# Altium footprint library m.PcbLib: 55 footprints (part 2 of 4)
Each footprint in its own frame and in the unit in brackets; x right, y up, seen from the top. Pads: shape width x height; smd on the part's side, far side on the other; paste and mask are expansions set on the pad; w line width, h text height; cw(c..) or ccw(c..) is an arc to the next point about the centre after c.
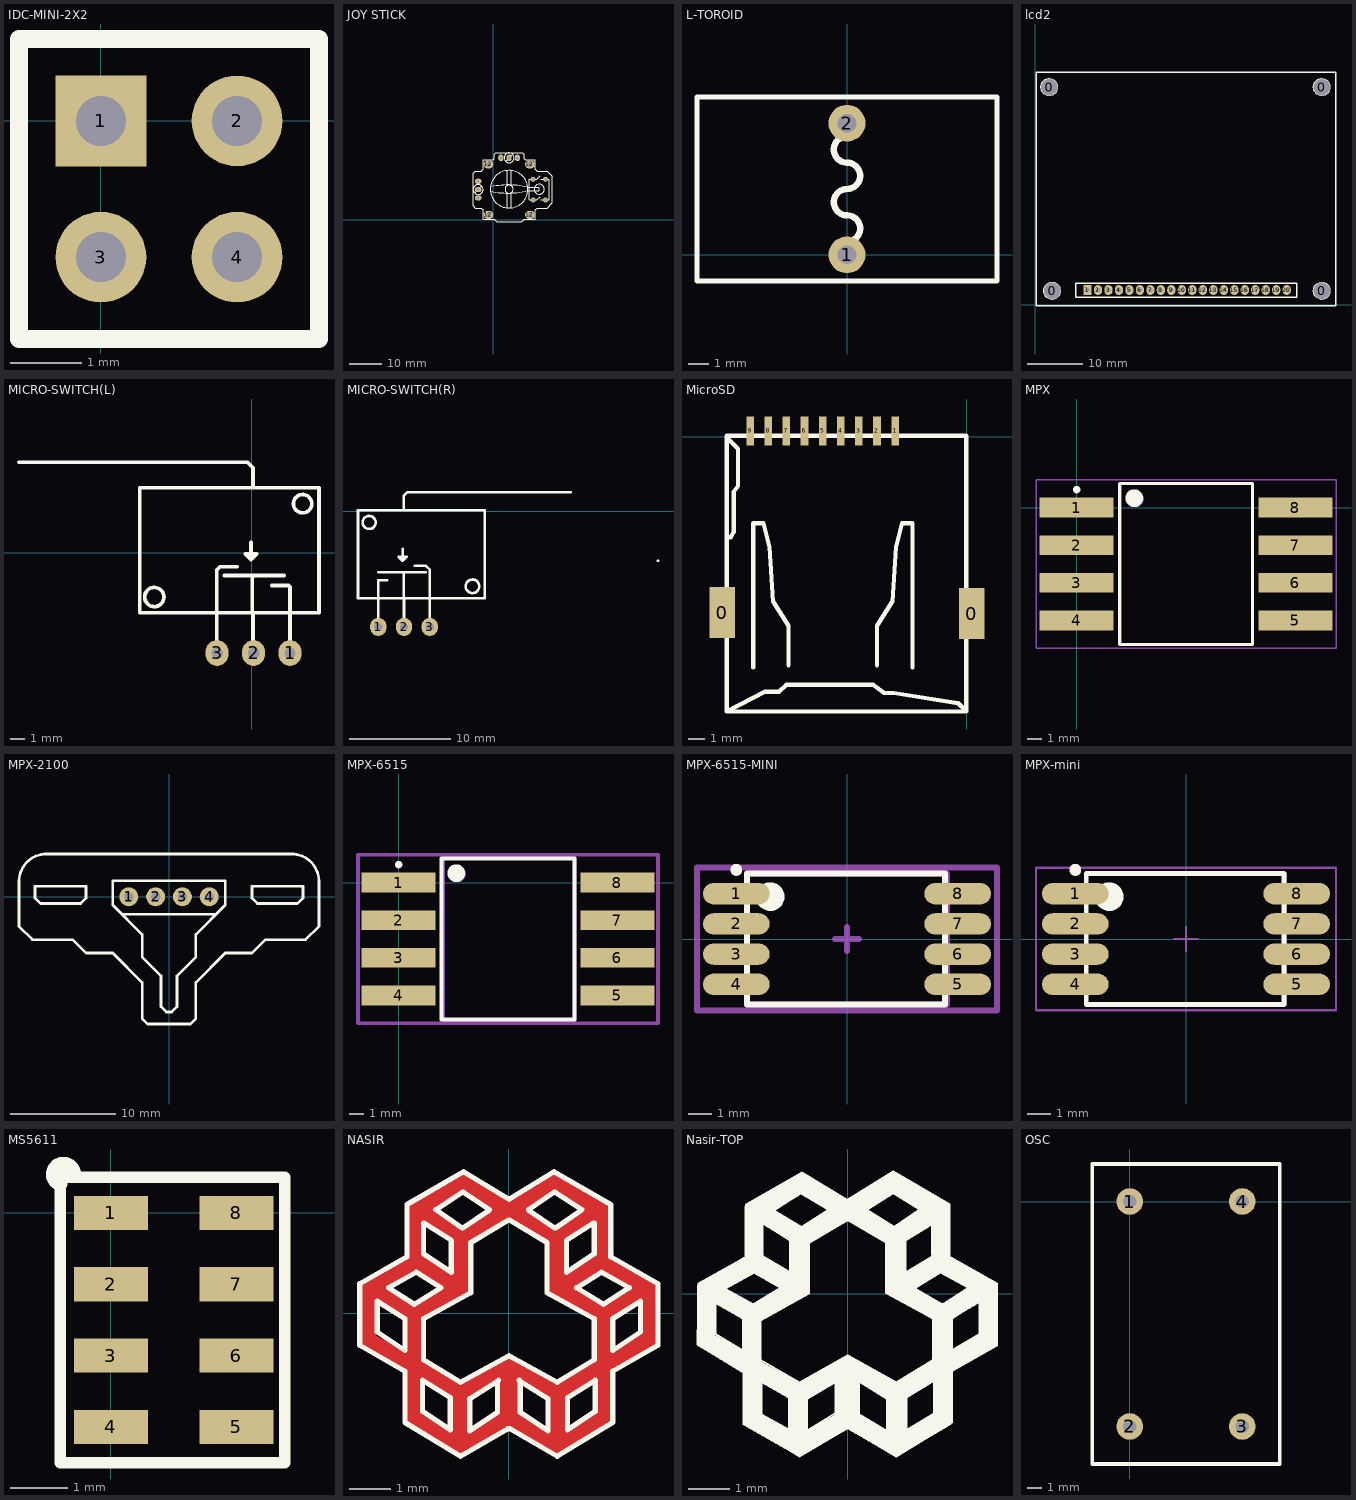
[diagram p1: the footprints below, top view; thin cyan lines are the x and y axes]

## IDC-MINI-2X2 [mm]
pads (4):
  rect 1.27x1.27 hole 0.7: 1(0,0)
  round 1.27 hole 0.7: 2(1.905,0) 3(0,-1.905) 4(1.905,-1.905)
Top Overlay:
  lines w0.254: -1.143,-3.048 -1.143,1.143 3.048,1.143 3.048,-3.048 -1.143,-3.048

## JOY STICK [mm]
pads (14):
  oval 2x1.6 hole 0.9: 1(-4.69,6.703) 2(-4.69,9.243) 3(-4.69,11.783)
  oval 1.6x2 hole 0.9: 4(2.259,18.986) 5(4.799,18.986) 6(7.339,18.986)
  round 1.524 hole 0.762: 7(15.968,6.06) 7(15.968,12.41) 8(12.158,6.06) 8(12.158,12.41)
  oval 3x2.5 hole 1.5: 12(-1.563,1.486) 12(-1.563,16.986) 12(11.158,1.486) 12(11.158,16.986)
Top Overlay:
  circle w0.254: c14.053,9.366 r1.529
  circle w0.254: c4.787,9.366 r5.75
  lines w0.254: -6.262,9.186 -6.262,14.247 -5.623,14.886 -3.801,14.886 -3.201,15.486 -3.201,18.386 -0.101,18.386 0.199,18.686 0.199,19.986 0.755,20.542 4.993,20.542 8.881,20.542 9.437,19.986 9.437,18.686 9.737,18.386 12.837,18.386 12.837,15.486 13.437,14.886 16.537,14.886 18.085,13.338 18.085,9.834 18.085,5.148 16.537,3.6 13.437,3.6 12.837,3 12.837,0.1 ; -6.262,9.3 -6.262,4.239 -5.623,3.6 -3.801,3.6 -3.201,3 -3.201,0.1 0.266,0.1 1.033,-0.667 8.604,-0.667 9.37,0.1 ; -5.754,8.223 -3.722,10.255 -3.595,10.255 ; -4.69,11.783 -4.361,11.783 ; -3.183,9.381 ccw(c-4.69,9.243) -3.177,9.239 ; -0.924,8.786 ccw(c4.389,31.799) 10.502,8.985 ; -0.797,10.074 cw(c4.516,-12.939) 10.43,9.927 13.859,9.927 cw(c13.297,9.42) 13.804,8.858 10.629,8.858 ; 3.735,17.966 5.767,19.998 ; 4.152,3.778 4.152,8.096 ; 4.152,10.636 4.152,14.954 ; 5.422,3.778 5.422,8.096 ; 5.422,10.636 5.422,14.954 ; 6.018,9.59 ccw(c4.787,9.366) 6.025,9.543 ; 6.306,19.124 ccw(c4.799,18.986) 6.313,18.982 ; 14.312,7.08 13.292,6.06 10.973,6.06 10.973,12.41 13.292,12.41 14.312,13.43 ; 14.439,12.414 14.443,12.41 17.069,12.41 17.069,6.06 14.443,6.06 ; 9.37,0.1 12.837,0.1 ; 9.37,0.1 12.837,0.1 ; 9.37,0.1 12.837,0.1

## L-TOROID [mil]
pads (2):
  round 70 hole 35.43: 1(0,0) 2(0,250)
Top Overlay:
  lines w10: -285,-50 285,-50 285,300 -285,300 -285,-50
  lines w12: 0,0 0,25 ccw(c0,50) 0,75 cw(c0,100) 0,125 ccw(c0,150) 0,175 cw(c0,200) 0,225
3D body: height 569.44, standoff 0.56, extent -280,-15 287.75,277

## lcd2 [mm]
pads (24):
  round 3 hole 3: 0(2.515,39.497) 0(3.023,2.489) 0(52.019,2.489) 0(52.019,39.472)
  rect 1.5x1.8 hole 0.7: 1(9.449,2.642)
  oval 1.5x1.8 hole 0.7: 2(11.354,2.642) 3(13.259,2.642) 4(15.164,2.642) 5(17.069,2.642) 6(18.974,2.642) 7(20.879,2.642) 8(22.784,2.642) 9(24.689,2.642) 10(26.594,2.642) 11(28.499,2.642) 12(30.404,2.642) 13(32.309,2.642) 14(34.214,2.642) 15(36.119,2.642) 16(38.024,2.642) 17(39.929,2.642) 18(41.834,2.642) 19(43.739,2.642) 20(45.644,2.642)
Top Overlay:
  circle w0.254: c52,39.5 r1.5
  circle w0.254: c3,2.5 r1.5
  circle w0.254: c52,2.5 r1.5
  circle w0.254: c2.5,39.5 r1.5
  lines w0.254: 0.1,-0.25 54.6,-0.25 54.6,42.24 0.1,42.24 0.1,-0.25 ; 7.3,1.35 47.5,1.35 47.5,3.85 7.3,3.85 7.3,1.35

## MICRO-SWITCH(L) [mm]
pads (3):
  oval 1.6x1.8 hole 0.8: 1(2.68,-7) 2(0.14,-7) 3(-2.4,-7)
Top Layer:
  lines w0.254: -7.8,4.5 -7.8,4.5
Top Overlay:
  circle w0.254: c-6.771,-3.1 r0.671
  circle w0.254: c3.56,3.4 r0.64
  lines w0.254: -16.2,6.3 -0.3,6.3 0.1,5.9 0.1,5.6 0.1,4.5 ; -2.42,-7.1 -2.42,-4.32 -2.42,-1.46 -2.42,-1.22 -2.2,-1 -1,-1 ; -1.9,-1.6 0.16,-1.6 ; -0.04,0.7 -0.04,-0.5 ; 0.06,-4.2 0.06,-3.4 0.06,-1.7 0.16,-1.6 ; 0.1,-7 0.1,-4.36 ; 1.4,-2.3 2.6,-2.3 2.68,-2.38 2.68,-7 ; 2.26,-1.6 0.16,-1.6 ; -0.04,-0.5 -0.44,-0.1 0.36,-0.1 -0.04,-0.5 ; -7.8,-4.2 -7.8,4.5 4.7,4.5 4.7,-4.2 -7.8,-4.2

## MICRO-SWITCH(R) [mm]
pads (3):
  oval 1.6x1.8 hole 0.8: 1(-53.1,-11.4) 2(-50.56,-11.4) 3(-48.02,-11.4)
Top Layer:
  lines w0.254: -55.1,0.1 -55.1,0.1
Top Overlay:
  circle w0.254: c-43.8,-7.4 r0.671
  circle w0.254: c-54,-1.1 r0.64
  lines w0.254: -53.1,-11.4 -53.1,-8.6 -53.1,-8.2 -53.1,-6.8 -52.2,-6.8 ; -53.1,-6 -50.5,-6 ; -50.7,-3.7 -50.7,-4.9 ; -50.6,-8.6 -50.6,-7.8 -50.6,-6.1 -50.5,-6 ; -50.6,0.1 -50.6,1.5 -50.2,1.9 -34.1,1.9 ; -50.56,-11.4 -50.56,-8.76 ; -49.5,-5.38 -48.4,-5.38 -48.02,-5.76 -48.02,-8.62 -48.02,-11.4 ; -48.4,-6 -50.5,-6 ; -50.7,-4.9 -50.7,-4.9 ; -50.7,-4.9 -51.1,-4.5 -50.3,-4.5 -50.7,-4.9 ; -55.1,-8.6 -55.1,0.1 -42.6,0.1 -42.6,-8.6 -55.1,-8.6 ; -25.5,-4.9 -25.5,-4.9

## MicroSD [mm]
pads (11):
  rect 1.5x3 smd: 0(-14.376,-10.363) 0(0.279,-10.414)
  rect 0.45x1.7 smd: 1(-4.216,0.33) 2(-5.283,0.33) 3(-6.35,0.33) 4(-7.416,0.33) 5(-8.483,0.33) 6(-9.55,0.33) 7(-10.616,0.33) 8(-11.683,0.33) 9(-12.75,0.33)
Top Overlay:
  lines w0.254: -14.12,-5.918 -13.891,-5.918 -13.714,-5.613 -13.714,-3.251 -13.46,-2.896 -13.46,-0.711 -14.12,-0.051 ; -12.571,-13.589 -12.571,-5.105 -12.266,-5.105 -11.961,-5.105 -11.605,-6.502 -11.402,-9.703 -10.488,-11.125 -10.488,-13.462 ; -5.281,-13.462 -5.281,-11.125 -4.366,-9.703 -4.163,-6.502 -3.808,-5.105 -3.503,-5.105 -3.198,-5.105 -3.198,-13.589 ; -14.12,-16.18 -11.859,-15.011 -11.047,-15.011 -10.615,-14.605 -5.509,-14.605 -4.877,-15.088 -4.318,-15.088 -4.293,-15.088 -0.506,-15.697 -0.023,-16.18 ; -14.12,-16.18 -0.023,-16.18 ; -14.12,-16.18 -14.12,0.051 -0.023,0.051 -0.023,-16.18
3D body: height 0.3, standoff 0, extent -14.12,-16.18 -0.023,0.051

## MPX [mm] "SOP, 8-Leads, Body 10.9x10.9mm (max), Pitch 2.54mm, IPC Medium Density"
height 2.65
pads (8):
  rect 5x1.35 smd: 1(0,0) 2(0,-2.54) 3(0,-5.08) 4(0,-7.62) 5(14.8,-7.62) 6(14.8,-5.08) 7(14.8,-2.54) 8(14.8,0)
Top Overlay:
  circle w0.6: c3.9,0.64 r0.3
  circle w0.25: c0,1.225 r0.125
  lines w0.2: 2.9,-9.26 11.9,-9.26 11.9,1.64 2.9,1.64 2.9,-9.26
Mechanical 13:
  circle w0.1: c4.004,0.61 r0.5
  lines w0.1: 3.006,-9.27 11.896,-9.27 11.896,1.65 3.006,1.65 3.006,-9.27
Mechanical 15:
  lines w0.1: -2.75,-9.51 17.55,-9.51 17.55,1.89 -2.75,1.89 -2.75,-9.51
3D body: height 4.06, standoff 2.56, extent 4.445,-6.756 10.82,-0.369
3D body: height 5, standoff 0, extent 5.11,-6.045 10.084,-1.067
3D body: height 2.65, standoff 0.1, extent 2.879,-9.271 11.87,1.651

## MPX-2100 [mm]
pads (4):
  round 1.8 hole 0.9: 1(-3.81,0) 2(-1.27,0) 3(1.27,0) 4(3.81,0)
Top Overlay:
  lines w0.254: -11.684,4.064 11.557,4.064 cw(c11.62,1.46) 14.224,1.524 14.224,-2.794 ; -11.557,4.064 ccw(c-11.62,1.46) -14.224,1.524 -14.224,-2.794 -12.954,-4.064 -9.144,-4.064 -7.874,-5.334 -5.334,-5.334 -2.54,-8.128 -2.54,-11.557 -2.032,-12.065 0,-12.065 2.032,-12.065 2.54,-11.557 2.54,-8.128 5.334,-5.334 7.874,-5.334 9.144,-4.064 12.954,-4.064 ; -7.874,1.016 -7.874,-0.127 -8.382,-0.635 -12.192,-0.635 -12.7,-0.127 -12.7,1.016 ; -4.445,-1.651 4.445,-1.651 ; 7.874,1.016 7.874,-0.127 8.382,-0.635 12.192,-0.635 12.7,-0.127 12.7,1.016 ; -12.7,1.016 -8.001,1.016 -12.7,1.016 ; 12.7,1.016 8.001,1.016 12.7,1.016 ; 12.954,-4.064 14.224,-2.794 ; 12.954,-4.064 14.224,-2.794 ; -5.334,-0.762 -2.54,-3.556 -2.54,-5.715 -0.762,-7.493 -0.762,-10.414 -0.254,-10.922 0.254,-10.922 0.762,-10.414 0.762,-7.493 2.54,-5.715 2.54,-3.556 5.334,-0.762 5.334,1.524 -5.334,1.524 -5.334,-0.762

## MPX-6515 [mm] "SOP, 8-Leads, Body 10.9x10.9mm (max), Pitch 2.54mm, IPC Medium Density"
height 2.65
pads (8):
  rect 5x1.35 smd: 1(0,0) 2(0,-2.54) 3(0,-5.08) 4(0,-7.62) 5(14.8,-7.62) 6(14.8,-5.08) 7(14.8,-2.54) 8(14.8,0)
Top Overlay:
  circle w0.6: c3.9,0.64 r0.3
  circle w0.25: c0,1.225 r0.125
  lines w0.254: 2.9,-9.26 11.9,-9.26 11.9,1.64 2.9,1.64 2.9,-9.26
Mechanical 13:
  circle w0.1: c4.004,0.61 r0.5
  lines w0.254: 3.006,-9.27 11.896,-9.27 11.896,1.65 3.006,1.65 3.006,-9.27
Mechanical 15:
  lines w0.254: -2.75,-9.51 17.55,-9.51 17.55,1.89 -2.75,1.89 -2.75,-9.51
3D body: height 4.06, standoff 2.56, extent 4.445,-6.756 10.82,-0.369
3D body: height 5, standoff 0, extent 5.11,-6.045 10.084,-1.067
3D body: height 2.65, standoff 0.1, extent 2.879,-9.271 11.87,1.651

## MPX-6515-MINI [mm]
height 2.65
pads (8):
  oval 2.8x0.9 smd: 1(-4.65,1.905) 2(-4.65,0.635) 3(-4.65,-0.635) 4(-4.65,-1.905) 5(4.65,-1.905) 6(4.65,-0.635) 7(4.65,0.635) 8(4.65,1.905)
Top Overlay:
  circle w0.25: c-4.65,2.905 r0.125
  circle w0.6: c-3.221,1.778 r0.3
  lines w0.254: -4.191,-2.75 -4.191,2.75 4.12,2.75 4.12,-2.75 -4.191,-2.75
Mechanical 13:
  circle w0.1: c-3.25,1.8 r0.5
  lines w0.254: -4.2,-2.75 -4.2,2.75 4.191,2.75 4.191,-2.75 -4.2,-2.75
Mechanical 15:
  lines w0.254: -0.5,0 0.5,0 ; 0,-0.5 0,0.5 ; -6.3,-3 -6.3,3 6.3,3 6.3,-3 -6.3,-3
3D body: height 5, standoff 1, extent -1.82,-1.991 2.159,1.991
3D body: height 3.5, standoff 2, extent -2.458,-2.695 2.921,2.695
3D body: height 2, standoff 0.1, extent -4.2,-2.75 4.2,2.75

## MPX-mini [mm]
height 2.65
pads (8):
  oval 2.8x0.9 smd: 1(-4.65,1.905) 2(-4.65,0.635) 3(-4.65,-0.635) 4(-4.65,-1.905) 5(4.65,-1.905) 6(4.65,-0.635) 7(4.65,0.635) 8(4.65,1.905)
Top Overlay:
  circle w0.6: c-3.221,1.778 r0.3
  circle w0.25: c-4.65,2.905 r0.125
  lines w0.2: -4.191,-2.75 4.12,-2.75 4.12,2.75 -4.191,2.75 -4.191,-2.75
Mechanical 13:
  circle w0.1: c-3.25,1.8 r0.5
  lines w0.1: -4.2,-2.75 4.191,-2.75 4.191,2.75 -4.2,2.75 -4.2,-2.75
Mechanical 15:
  lines w0.1: -0.5,0 0.5,0 ; 0,-0.5 0,0.5 ; -6.3,-3 6.3,-3 6.3,3 -6.3,3 -6.3,-3
3D body: height 3.5, standoff 2, extent -2.458,-2.695 2.921,2.695
3D body: height 5, standoff 1, extent -1.82,-1.991 2.159,1.991
3D body: height 2, standoff 0.1, extent -4.2,-2.75 4.2,2.75

## MS5611 [mm]
pads (8):
  rect 1.3x0.6 smd: 1(0,0) 2(0,-1.25) 3(0,-2.5) 4(0,-3.75) 5(2.2,-3.75) 6(2.2,-2.5) 7(2.2,-1.25) 8(2.2,0)
Top Overlay:
  lines w0.2: 0.788,0.625 3.048,0.625 3.048,-4.375 -0.889,-4.375 -0.889,0.625 1.412,0.625
  lines w0.254: -0.889,0.508 cw(c-0.832,0.678) -0.653,0.678
3D body: height 1, standoff 0.2, extent -0.559,-4.039 2.743,0.33
3D body: height 0.2, standoff 0, extent -0.787,-4.267 2.921,0.533

## NASIR [mm]
Top Layer:
  drawing of 2506 lines, arcs and shapes, not listed
Top Overlay:
  lines w0.127: -2.475,2.625 -2.475,1.375 -3.625,0.725 -3.625,-0.775 ; -2.475,2.65 -1.1,3.45 0,2.775 1.1,3.45 2.475,2.65 ; -1.125,2.95 -1.775,2.525 -1.125,2.075 -0.476,2.513 ; -1.1,2.95 -0.475,2.525 ; -0.025,-2.8 -1.175,-3.475 -2.525,-2.65 -2.525,-1.4 ; 0.025,-2.8 1.175,-3.475 2.525,-2.65 2.525,-1.4 ; 0.475,2.525 1.1,2.95 ; 0.476,2.513 1.125,2.075 1.775,2.525 1.125,2.95 ; 2.475,2.625 2.475,1.375 3.625,0.725 3.625,-0.775 ; -3.625,-0.775 -2.525,-1.4 ; -3.625,-0.775 -2.525,-1.4 ; 2.525,-1.4 3.625,-0.775 ; 2.525,-1.4 3.625,-0.775 ; -3.2,-0.45 -2.525,-0.9 -2.525,-0.125 -3.2,0.3 -3.2,-0.45 ; -2.925,0.625 -2.3,0.225 -1.65,0.625 -2.25,1 -2.925,0.625 ; -2.1,-2.375 -1.425,-2.825 -1.425,-2.05 -2.1,-1.625 -2.1,-2.375 ; -2.075,-1.125 -1.175,-1.675 0,-1.025 1.175,-1.675 2.075,-1.125 2.075,-0.125 0.925,0.5 0.925,1.725 0,2.275 -0.925,1.725 -0.925,0.5 -2.075,-0.125 -2.075,-1.125 ; -2.075,1.45 -2.075,2.2 -1.4,1.775 -1.4,1 -2.075,1.45 ; -0.95,-2.85 -0.95,-2.075 -0.275,-1.65 -0.275,-2.4 -0.95,-2.85 ; -0.25,-1.625 -0.25,-1.625 ; 0.25,-1.625 0.25,-1.625 ; 0.275,-2.4 0.95,-2.85 0.95,-2.075 0.275,-1.65 0.275,-2.4 ; 1.4,1 2.075,1.45 2.075,2.2 1.4,1.775 1.4,1 ; 1.425,-2.825 1.425,-2.05 2.1,-1.625 2.1,-2.375 1.425,-2.825 ; 1.65,0.625 2.3,0.225 2.925,0.625 2.25,1 1.65,0.625 ; 2.525,-0.9 2.525,-0.125 3.2,0.3 3.2,-0.45 2.525,-0.9
Top Solder:
  drawing of 2505 lines, arcs and shapes, not listed

## Nasir-TOP [mm]
Top Overlay:
  drawing of 2589 lines, arcs and shapes, not listed

## OSC [mm]
pads (4):
  round 1.8 hole 0.9: 1(0,0) 2(0,-15.24) 3(7.62,-15.24) 4(7.62,0)
Top Overlay:
  lines w0.254: -2.54,-17.78 -2.54,2.54 10.16,2.54 10.16,-17.78 -2.54,-17.78